# Altium footprint library RJ45 J00-0045NL.PcbLib: 1 footprints
Each footprint in its own frame and in the unit in brackets; x right, y up, seen from the top. Pads: shape width x height; smd on the part's side, far side on the other; paste and mask are expansions set on the pad; w line width, h text height; cw(c..) or ccw(c..) is an arc to the next point about the centre after c.
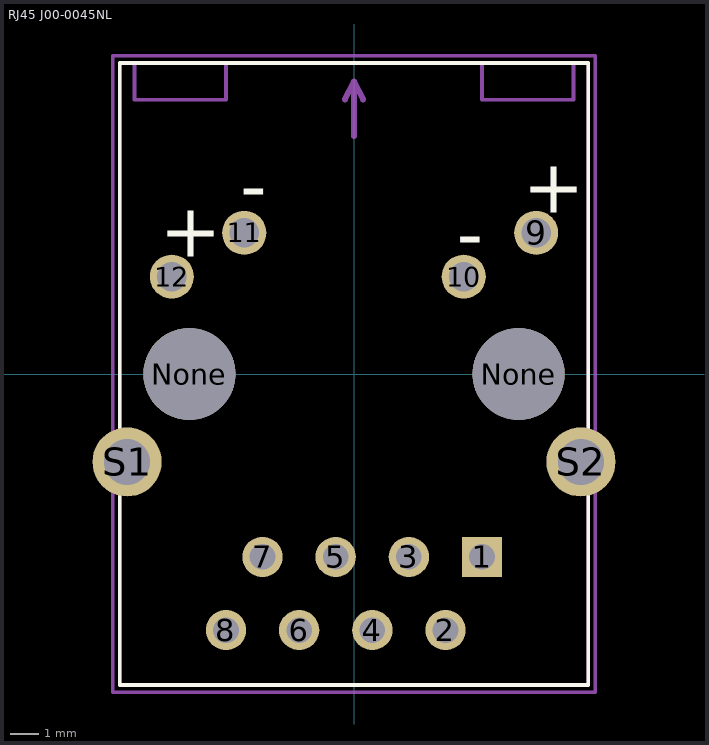
[diagram p0: the footprint, top view; thin cyan lines are the x and y axes]

## RJ45 J00-0045NL [mm]
pads (16):
  rect 1.398x1.398 hole 0.89: 1(4.445,-6.35)
  round 1.398 hole 0.89: 2(3.175,-8.89) 3(1.905,-6.35) 4(0.635,-8.89) 5(-0.635,-6.35) 6(-1.905,-8.89) 7(-3.175,-6.35) 8(-4.445,-8.89)
  round 1.53 hole 1.02: 9(6.325,4.9) 10(3.81,3.38) 11(-3.81,4.9) 12(-6.325,3.38)
  round 3.2 hole 3.2 unplated: None(-5.715,0) None(5.715,0)
  round 2.4 hole 1.6: S1(-7.875,-3.05) S2(7.875,-3.05)
Top Overlay:
  lines w0.127: -8.13,-10.795 -8.13,10.795 8.13,10.795 8.13,-10.795 -8.13,-10.795
  text "+" at -6.749,4.077 h1.88
  text "-" at -3.947,5.606 h1.88
  text "-" at 3.569,3.949 h1.88
  text "+" at 5.865,5.604 h1.88
Mechanical 4:
  lines w0.127: -8.128,-10.795 8.128,-10.795 ; -8.128,-10.795 -8.128,10.795 ; -8.128,-10.795 8.128,-10.795 ; -8.128,-10.795 -8.128,10.795 ; -8.128,10.795 8.128,10.795 ; -8.128,10.795 8.128,10.795 ; -7.62,9.525 -4.445,9.525 ; -7.62,9.525 -7.62,10.795 -7.62,9.525 ; -7.62,9.525 -4.445,9.525 ; -4.445,9.525 -4.445,10.795 -4.445,9.525 ; 4.445,9.525 7.62,9.525 ; 4.445,9.525 4.445,10.795 4.445,9.525 ; 4.445,9.525 7.62,9.525 ; 7.62,9.525 7.62,10.795 7.62,9.525 ; 8.128,-10.795 8.128,10.795 ; 8.128,-10.795 8.128,10.795
  lines w0.203: 0,10.16 0.318,9.525 0,10.16 ; 0,10.16 -0.318,9.525 0,10.16 ; 0,10.16 0,8.255 0,10.16
  text "12" at -7.753,1.402 h1.88
  text "11" at -4.327,2.805 h1.88
  text "10" at 2.804,1.152 h1.88
  text "9" at 6.235,2.804 h1.88
  text "FRONT" at -1.592,6.436 h1.88
  text "RIGHT" at -7.327,9.625 h1.88
  text "LEFT" at 5.102,9.636 h1.88
  text "2" at 3.823,-8.534 h1.88
  text "4" at 1.273,-8.524 h1.88
  text "6" at -1.277,-8.553 h1.88
  text "8" at -3.827,-8.542 h1.88
  text "7" at -2.549,-5.984 h1.88
  text "5" at 0,-5.995 h1.88
  text "3" at 2.547,-5.981 h1.88
  text "1" at 5.105,-5.993 h1.88
  text "12" at -7.753,1.402 h1.88
  text "11" at -4.327,2.805 h1.88
  text "10" at 2.804,1.152 h1.88
  text "9" at 6.235,2.804 h1.88
  text "FRONT" at -1.592,6.436 h1.88
  text "RIGHT" at -7.327,9.625 h1.88
  text "LEFT" at 5.102,9.636 h1.88
  text "2" at 3.823,-8.534 h1.88
  text "4" at 1.273,-8.524 h1.88
  text "6" at -1.277,-8.553 h1.88
  text "8" at -3.827,-8.542 h1.88
  text "7" at -2.549,-5.984 h1.88
  text "5" at 0,-5.995 h1.88
  text "3" at 2.547,-5.981 h1.88
  text "1" at 5.105,-5.993 h1.88
Mechanical 15:
  lines w0.127: -8.378,-11.045 -8.378,11.045 8.378,11.045 8.378,-11.045 -8.378,-11.045
3D body "J00-0045NL--3DModel-STEP-56544.STEP": height 13.68, standoff -3.67, extent -8.201,-10.82 8.255,10.77